# Altium schematic symbol library gateway.SCHLIB: 35 symbols
Pins are listed as number, name and electrical type; pins without a type are passive.

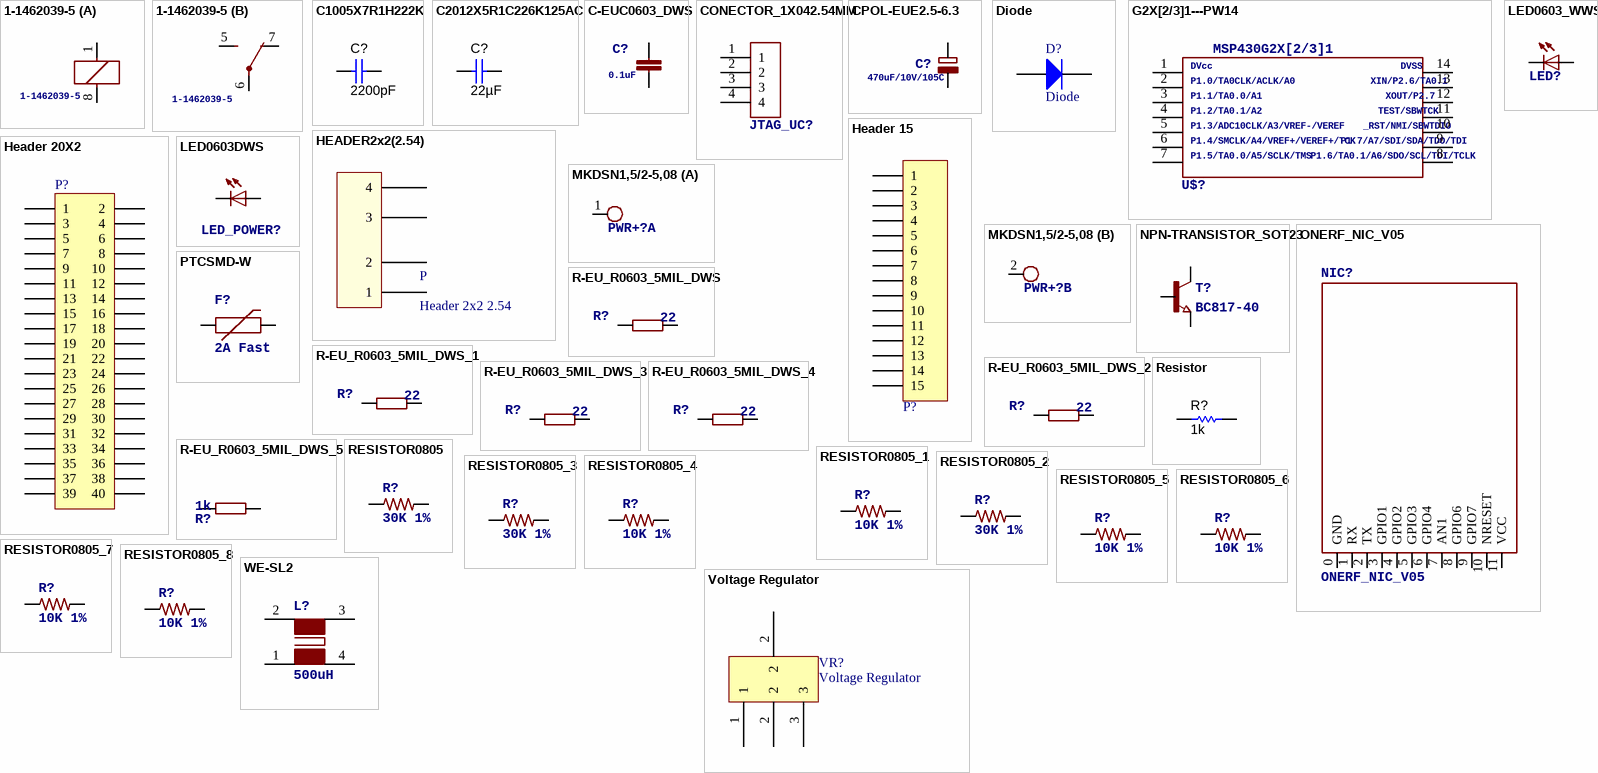
[diagram p0: symbols 1-1462039-5 to WE-SL2]

## 1-1462039-5
designator RELAY
RELAY; DIGIKEY: Z2616-ND
footprint 1-1462039-5 (Rele 1-1462039-5)
part A pins: 1, 8
part B pins: 5 NO, 6 COM, 7 NC

## C1005X7R1H222K
designator C?, comment ValueDisplayed: 2200pF  (hidden comment: CL10B222KB8SFNC)
CAP, CERM, 2200 pF, 50 V, +/- 10%, X7R, 0603; Polarized: N; CompType: Capacitor; Value: 2200pF; U/M: EA; Tolerance_%: 10; VDC_V: 50; Value2: 50V; TaMin_C: -55; TaMax_C: 125; Cap_Case: 0603; SymbolVersion: 2008-07-09; PartNumber: CL10B222KB8SFNC; PackageReference: 0603; RoHS: Y; MountType: SMT; Technology: Ceramic; TempCo: X7R; Published: 2008-06-19; Publisher: Texas Instruments; Supplier 1: Digi-Key
signal-integrity model Cap
simulation model Cap
footprint 0402
footprint 0402M
footprint 0402L
footprint 0402S
footprint 0603
pins: 1, 2

## C2012X5R1C226K125AC
designator C?  ValueDisplayed: 22µF  (hidden comment: C2012X5R1C226K125AC)
CAP, CERM, 22 µF, 16 V, +/- 10%, X5R, 0805; Value: 22uF; Tolerance_%: 10; VDC_V: 16; Value2: 16V; TaMin_C: -55; TaMax_C: 85; PartNumber: C2012X5R1C226K125AC; Technology: Ceramic; TempCo: X5R
signal-integrity model Cap
simulation model Cap
footprint 0805_HV1
footprint 0805
footprint 0805M
footprint 0805L
footprint 0805_HV
pins: 1, 2

## C-EUC0603_DWS
designator C?, comment 0.1uF
CAPACITOR, European symbol
footprint C0603_DWS
footprint 0603
pins: 1, 2

## CONECTOR_1X042.54MM
designator JTAG_UC?  (value not drawn)
footprint 1X04
pins: 1, 2, 3, 4

## CPOL-EUE2.5-6.3
designator C?, comment 470uF/10V/105C
POLARIZED CAPACITOR, European symbol
footprint E2,5-6,3
pins: +, -

## Diode
designator D?
Diode, 100v, 1V, 200mA, -65º, 175º, SMT; PartNumber: FDLL4148_D87Z; Footprint: SOD-80
footprint SMC (DO-214-AB/SMC; 2 C-Bend Leads; Body 7.9 x 5.9 mm, inc. leads (LxW))
simulation model DIODE (Diode)
signal-integrity model Diode
footprint 0603
footprint SOD-80
pins: 1 A, 2 K

## G2X[2/3]1---PW14
designator U$?, comment MSP430G2231  (value not drawn)
MSP430G2X[2/3]1 TSSOP (PW) 14 Pin Package  http://focus.ti.com/docs/prod/folders/print/msp430g2221.html  MSP430G2121, MSP430G2221, MSP430G2131; DIGIKEY: 296-31697-1-ND; MSP430G2X[2/3]1: MSP430G2X[2/3]1; DVcc: DVcc; P1.0/TA0CLK/ACLK/A0: P1.0/TA0CLK/ACLK/A0; P1.1/TA0.0/A1: P1.1/TA0.0/A1; P1.2/TA0.1/A2: P1.2/TA0.1/A2; P1.3/ADC10CLK/A3/VREF-/VEREF: P1.3/ADC10CLK/A3/VREF-/VEREF; P1.4/SMCLK/A4/VREF+/VEREF+/TCK: P1.4/SMCLK/A4/VREF+/VEREF+/TCK; P1.5/TA0.0/A5/SCLK/TMS: P1.5/TA0.0/A5/SCLK/TMS; P1.6/TA0.1/A6/SDO/SCL/TDI/TCLK: P1.6/TA0.1/A6/SDO/SCL/TDI/TCLK; P1.7/A7/SDI/SDA/TDO/TDI: P1.7/A7/SDI/SDA/TDO/TDI; _RST/NMI/SBWTDIO: _RST/NMI/SBWTDIO; TEST/SBWTCK: TEST/SBWTCK; XOUT/P2.7: XOUT/P2.7; XIN/P2.6/TA0.1: XIN/P2.6/TA0.1; DVSS: DVSS
footprint PW14
pins: 1, 2, 3, 4, 5, 6, 7, 8, 9, 10, 11, 12, 13, 14

## HEADER2x2(2.54)
designator P, comment Header 2x2 2.54
footprint HEADER2x2(2.54)
pins: 1, 2, 3, 4

## Header 15
designator P?  (value not drawn)
CONN HEADER .100" SNGL STR 15POS; Manufacturer: Wurth Electronics Inc.; Manufacturer Part Number: 61301511121; Pitch - Mating: 0.100" (2.54mm); Style: Board to Board or Cable; Shrouding: Unshrouded; Number of Positions: 15; Number of Positions Loaded: All; Contact Length - Mating: 0.236" (6.00mm); Contact Length - Post: 0.118" (3.00mm); Overall Contact Length: 0.454" (11.54mm); Material Flammability Rating: UL94 V-0; Current Rating: 3A; Voltage Rating: 250V; Supplier 1: Digi-Key; RoHS: RoHS Compliant; Category: Connectors, Interconnects; Stock 1: 868; Pricing 1: 1=0.82, 10=0.697, 25=0.5812, 50=0.484, 100=0.44, 500=0.4 (USD); Packaging: Bulk; Part Status: Active; Connector Type: Header; Contact Type: Male Pin; Number of Rows: 1; Row Spacing - Mating: -; Mounting Type: Through Hole; Termination: Solder; Fastening Type: -; Insulation Height: 0.100" (2.54mm); Contact Shape: Square; Contact Finish - Mating: Gold; Contact Finish Thickness - Mating: -; Contact Finish - Post: -; Contact Material: Copper Alloy; Insulation Material: Polybutylene Terephthalate (PBT); Features: -; Operating Temperature: -40°C ~ 125°C; Ingress Protection: -; Insulation Color: Black; Mated Stacking Heights: -; Contact Finish Thickness - Post: -; Applications: -; ComponentLink1URL: http://katalog.we-online.de/em/datasheet/6130xx11121.pdf; ComponentLink1Description: http://katalog.we-online.de/em/datasheet/6130xx11121.pdf; Supplier Part Number 1: 732-5326-ND
footprint HDR1X15 (Connector; Header; 15 Position)
pins: 1, 2, 3, 4, 5, 6, 7, 8, 9, 10, 11, 12, 13, 14, 15

## Header 20X2
designator P?  (value not drawn)
Header, 20-Pin, Dual row; LatestRevisionDate: 17-Jul-2002; LatestRevisionNote: Re-released for DXP Platform.; Publisher: Altium Limited
footprint HDR2X20 (Connector; Header; 20x2 Position)
signal-integrity model Connector
pins: 1, 2, 3, 4, 5, 6, 7, 8, 9, 10, 11, 12, 13, 14, 15, 16, 17, 18, 19, 20, 21, 22, 23, 24, 25, 26, 27, 28, 29, 30, 31, 32, 33, 34, 35, 36, 37, 38, 39, 40

## LED0603_WWS
designator LED?, comment LED/WHITE/0603  (value not drawn)
footprint LED-0603_WWS
pins: 1 A, 2 C

## LED0603DWS
designator LED_POWER?, comment LED/Red/0603  (value not drawn)
footprint LED-0603
pins: 1 A, 2 C

## MKDSN1,5/2-5,08
designator PWR+?  (value not drawn)
MKDSN 1,5/ 2-5,08 Printklemme   Nennstrom: 13,5 A Nennspannung: 250 V Rastermaß: 5,08 mm Polzahl: 2 Anschlussart: Schraubanschluss Montage: Löten Anschlussrichtung Leiter/Platine: 0 ° Artikelnummer: 1729128 Source: http://eshop.phoenixcontact.com .. 1729128.pdf; DIGIKEY: ED2768-ND
footprint MKDSN1,5/2-5,08
part A pins: 1 KL
part B pins: 2 KL

## NPN-TRANSISTOR_SOT23
designator T?, comment BC817-40
NPN TRANSISTOR
footprint SOT23
pins: 1 B, 2 E, 3 C

## ONERF_NIC_V05
designator NIC?
footprint ONERF_NIC_V05
pins: 0 GND (power), 1 RX, 2 TX, 3 GPIO1, 4 GPIO2, 5 GPIO3, 6 GPIO4, 7 AN1, 8 GPIO6, 9 GPIO7, 10 NRESET, 11 VCC (power)

## PTCSMD-W
designator F?, comment 2A Fast
Resettable Fuse PTCResettable Fuse. Spark Fun Electronics SKU : COM-08357; DIGIKEY: 507-1881-1-ND
footprint PTC-1206-WIDE
pins: 1, 2

## R-EU_R0603_5MIL_DWS
designator R?, comment 22
RESISTOR, European symbol
footprint R0603_5MIL_DWS
pins: 1, 2

## R-EU_R0603_5MIL_DWS_1
designator R?, comment 22
RESISTOR, European symbol
footprint R0603_5MIL_DWS
pins: 1, 2

## R-EU_R0603_5MIL_DWS_2
designator R?, comment 22
RESISTOR, European symbol
footprint R0603_5MIL_DWS
pins: 1, 2

## R-EU_R0603_5MIL_DWS_3
designator R?, comment 22
RESISTOR, European symbol
footprint R0603_5MIL_DWS
pins: 1, 2

## R-EU_R0603_5MIL_DWS_4
designator R?, comment 22
RESISTOR, European symbol
footprint R0603_5MIL_DWS
pins: 1, 2

## R-EU_R0603_5MIL_DWS_5
designator R?, comment 1k
RESISTOR, European symbol
footprint R0603_5MIL_DWS
pins: 1, 2

## Resistor
designator R?, comment value 1k  (hidden comment: CRCW06031K00FKEA)
RES, 1kohm, 1%, 1/10W, 0603; PartNumber: CRCW06031K00FKEA
signal-integrity model Resistor
simulation model Resistor
footprint TBD
footprint 0201
footprint 0603_HV
footprint 0805
footprint 0805_HV
footprint 1206
footprint 1210
footprint 1812
footprint 2010
footprint 2512
footprint 0603
footprint 0603
pins: 1, 2

## RESISTOR0805
designator R?, comment 30K 1%
ResistorBasic schematic elements and footprints for 0603, 1206, and PTH 1/10th watt (small) resistors.; DIGIKEY: 311-30.0KHRCT-ND
footprint 0805
pins: 1, 2

## RESISTOR0805_1
designator R?, comment 10K 1%
ResistorBasic schematic elements and footprints for 0603, 1206, and PTH 1/10th watt (small) resistors.; DIGIKEY: 311-10.0KHRCT-ND
footprint 0805
pins: 1, 2

## RESISTOR0805_2
designator R?, comment 30K 1%
ResistorBasic schematic elements and footprints for 0603, 1206, and PTH 1/10th watt (small) resistors.; DIGIKEY: 311-30.0KHRCT-ND
footprint 0805
pins: 1, 2

## RESISTOR0805_3
designator R?, comment 30K 1%
ResistorBasic schematic elements and footprints for 0603, 1206, and PTH 1/10th watt (small) resistors.; DIGIKEY: 311-30.0KHRCT-ND
footprint 0805
pins: 1, 2

## RESISTOR0805_4
designator R?, comment 10K 1%
ResistorBasic schematic elements and footprints for 0603, 1206, and PTH 1/10th watt (small) resistors.; DIGIKEY: 311-10.0KHRCT-ND
footprint 0805
pins: 1, 2

## RESISTOR0805_5
designator R?, comment 10K 1%
ResistorBasic schematic elements and footprints for 0603, 1206, and PTH 1/10th watt (small) resistors.; DIGIKEY: 311-10.0KHRCT-ND
footprint 0805
pins: 1, 2

## RESISTOR0805_6
designator R?, comment 10K 1%
ResistorBasic schematic elements and footprints for 0603, 1206, and PTH 1/10th watt (small) resistors.; DIGIKEY: 311-10.0KHRCT-ND
footprint 0805
pins: 1, 2

## RESISTOR0805_7
designator R?, comment 10K 1%
ResistorBasic schematic elements and footprints for 0603, 1206, and PTH 1/10th watt (small) resistors.; DIGIKEY: 311-10.0KHRCT-ND
footprint 0805
pins: 1, 2

## RESISTOR0805_8
designator R?, comment 10K 1%
ResistorBasic schematic elements and footprints for 0603, 1206, and PTH 1/10th watt (small) resistors.; DIGIKEY: 311-10.0KHRCT-ND
footprint 0805
pins: 1, 2

## Voltage Regulator
designator VR?
PartNumber: AZ1117H-ADJTRE1
footprint SOT223 (SOT223 - Regulador)
pins: 1, 2, 2, 3

## WE-SL2
designator L?, comment 500uH
SMD Common-Mode Choke for signal lines WE-SL2 For distortion-free removal of noise from transmitted electrical signals - Double current-compensated choke -- Current compensated choke for data and signal lines -- Power supply systems -- Filter for measurement signals; DIGIKEY: 732-1484-1-ND
footprint WE-SL2_74422...
pins: 1 2, 2 1, 3 4, 4 3